# Altium footprint library syhaunguyen.PcbLib: 329 footprints (part 1 of 21)
Each footprint in its own frame and in the unit in brackets; x right, y up, seen from the top. Pads: shape width x height; smd on the part's side, far side on the other; paste and mask are expansions set on the pad; w line width, h text height; cw(c..) or ccw(c..) is an arc to the next point about the centre after c.
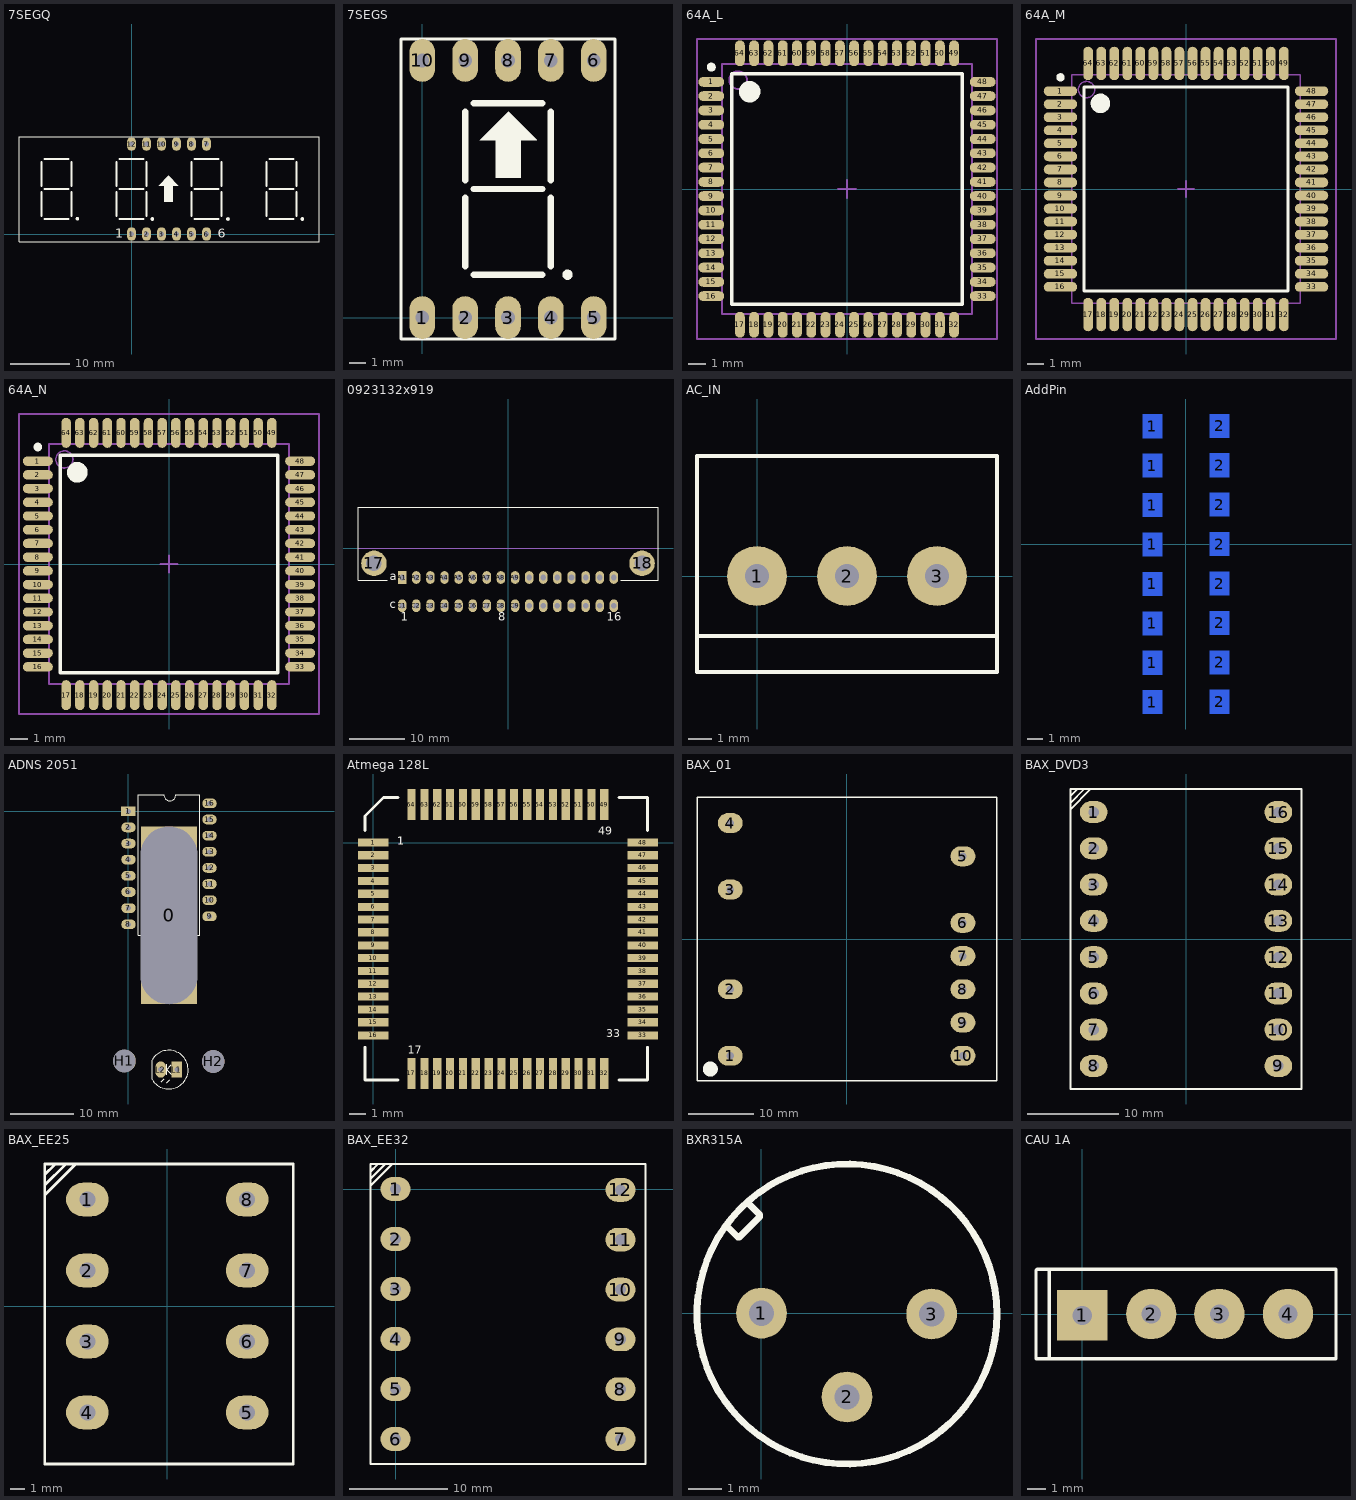
[diagram p0: the footprints below, top view; thin cyan lines are the x and y axes]

## 7SEGQ [mil] "DIP 12 Leads; Body 48 x 20 mm; Pitch 0.5 mm"
height 300
pads (12):
  oval 60x90 hole 31: 1(0,0) 2(100,0) 3(200,0) 4(300,0) 5(400,0) 6(500,0) 7(500,600) 8(400,600) 9(300,600) 10(200,600) 11(100,600) 12(0,600)
Top Overlay:
  drawing of 155 lines, arcs and shapes, not listed
  text "6" at 575,-26 h60
  text "1" at -108,-24 h60
3D body: height 276.19, standoff -117.51, extent -50,550 550,650
3D body: height 276.19, standoff -117.51, extent -50,-44.99 550,55.01
3D body: height 564.96, standoff 112.2, extent -720.16,-80 1260.16,668.03

## 7SEGS [mil] "DIP 10 Leads; Body 12 x 15 mm; Pitch 0.5 mm"
height 300
pads (10):
  oval 60x100 hole 32: 1(0,0) 2(100,0) 3(200,0) 4(300,0) 5(400,0) 6(400,600) 7(300,600) 8(200,600) 9(100,600) 10(0,600)
Top Overlay:
  circle w12: c339,100 r6
  region: 134,414 200,480 202,480 267,415 267,414 230,414 230,326 171,326 171,414
  lines w7: -50,-50 450,-50 450,650 -50,650 -50,-50
  lines w15: 100,120 100,280 ; 100,120 100,280 ; 100,120 100,280 ; 100,120 100,280 ; 100,120 100,280 ; 100,120 100,280 ; 100,120 100,280 ; 100,120 100,280 ; 100,320 100,480 ; 100,320 100,480 ; 100,320 100,480 ; 100,320 100,480 ; 100,320 100,480 ; 100,320 100,480 ; 100,320 100,480 ; 100,320 100,480 ; 120,100 280,100 ; 120,100 280,100 ; 120,100 280,100 ; 120,100 280,100 ; 120,300 280,300 ; 120,300 280,300 ; 120,300 280,300 ; 120,300 280,300 ; 120,300 280,300 ; 120,300 280,300 ; 120,300 280,300 ; 120,300 280,300 ; 120,500 280,500 ; 120,500 280,500 ; 120,500 280,500 ; 120,500 280,500 ; 300,120 300,280 ; 300,120 300,280 ; 300,120 300,280 ; 300,120 300,280 ; 300,120 300,280 ; 300,120 300,280 ; 300,120 300,280 ; 300,120 300,280 ; 300,320 300,480 ; 300,320 300,480 ; 300,320 300,480 ; 300,320 300,480 ; 300,320 300,480 ; 300,320 300,480 ; 300,320 300,480 ; 300,320 300,480
3D body: height 316.25, standoff -156.19, extent -50,-75 450,675

## 64A_L [mm] "Thin QFP, 64-Leads, Body 14x14mm, Pitch 0.8mm, IPC High Density"
height 1.2
pads (64):
  oval 1.45x0.55 smd: 1(-7.6,6) 2(-7.6,5.2) 3(-7.6,4.4) 4(-7.6,3.6) 5(-7.6,2.8) 6(-7.6,2) 7(-7.6,1.2) 8(-7.6,0.4) 9(-7.6,-0.4) 10(-7.6,-1.2) 11(-7.6,-2) 12(-7.6,-2.8) 13(-7.6,-3.6) 14(-7.6,-4.4) 15(-7.6,-5.2) 16(-7.6,-6) 33(7.6,-6) 34(7.6,-5.2) 35(7.6,-4.4) 36(7.6,-3.6) 37(7.6,-2.8) 38(7.6,-2) 39(7.6,-1.2) 40(7.6,-0.4) 41(7.6,0.4) 42(7.6,1.2) 43(7.6,2) 44(7.6,2.8) 45(7.6,3.6) 46(7.6,4.4) 47(7.6,5.2) 48(7.6,6)
  oval 0.55x1.45 smd: 17(-6,-7.6) 18(-5.2,-7.6) 19(-4.4,-7.6) 20(-3.6,-7.6) 21(-2.8,-7.6) 22(-2,-7.6) 23(-1.2,-7.6) 24(-0.4,-7.6) 25(0.4,-7.6) 26(1.2,-7.6) 27(2,-7.6) 28(2.8,-7.6) 29(3.6,-7.6) 30(4.4,-7.6) 31(5.2,-7.6) 32(6,-7.6) 49(6,7.6) 50(5.2,7.6) 51(4.4,7.6) 52(3.6,7.6) 53(2.8,7.6) 54(2,7.6) 55(1.2,7.6) 56(0.4,7.6) 57(-0.4,7.6) 58(-1.2,7.6) 59(-2,7.6) 60(-2.8,7.6) 61(-3.6,7.6) 62(-4.4,7.6) 63(-5.2,7.6) 64(-6,7.6)
Top Overlay:
  circle w0.6: c-5.45,5.45 r0.3
  circle w0.25: c-7.6,6.825 r0.125
  lines w0.2: -6.45,-6.45 6.45,-6.45 6.45,6.45 -6.45,6.45 -6.45,-6.45
Mechanical 13:
  circle w0.1: c-6.1,6.1 r0.5
  lines w0.1: -7,-7 7,-7 7,7 -7,7 -7,-7
Mechanical 15:
  lines w0.1: -0.5,0 0.5,0 ; 0,-0.5 0,0.5 ; -8.4,-8.4 8.4,-8.4 8.4,8.4 -8.4,8.4 -8.4,-8.4
3D body: height 1.2, standoff 0, extent -7,-7 7,7

## 64A_M [mm] "Thin QFP, 64-Leads, Body 14x14mm, Pitch 0.8mm, IPC Low Density"
height 1.2
pads (64):
  oval 2.05x0.6 smd: 1(-7.7,6) 2(-7.7,5.2) 3(-7.7,4.4) 4(-7.7,3.6) 5(-7.7,2.8) 6(-7.7,2) 7(-7.7,1.2) 8(-7.7,0.4) 9(-7.7,-0.4) 10(-7.7,-1.2) 11(-7.7,-2) 12(-7.7,-2.8) 13(-7.7,-3.6) 14(-7.7,-4.4) 15(-7.7,-5.2) 16(-7.7,-6) 33(7.7,-6) 34(7.7,-5.2) 35(7.7,-4.4) 36(7.7,-3.6) 37(7.7,-2.8) 38(7.7,-2) 39(7.7,-1.2) 40(7.7,-0.4) 41(7.7,0.4) 42(7.7,1.2) 43(7.7,2) 44(7.7,2.8) 45(7.7,3.6) 46(7.7,4.4) 47(7.7,5.2) 48(7.7,6)
  oval 0.6x2.05 smd: 17(-6,-7.7) 18(-5.2,-7.7) 19(-4.4,-7.7) 20(-3.6,-7.7) 21(-2.8,-7.7) 22(-2,-7.7) 23(-1.2,-7.7) 24(-0.4,-7.7) 25(0.4,-7.7) 26(1.2,-7.7) 27(2,-7.7) 28(2.8,-7.7) 29(3.6,-7.7) 30(4.4,-7.7) 31(5.2,-7.7) 32(6,-7.7) 49(6,7.7) 50(5.2,7.7) 51(4.4,7.7) 52(3.6,7.7) 53(2.8,7.7) 54(2,7.7) 55(1.2,7.7) 56(0.4,7.7) 57(-0.4,7.7) 58(-1.2,7.7) 59(-2,7.7) 60(-2.8,7.7) 61(-3.6,7.7) 62(-4.4,7.7) 63(-5.2,7.7) 64(-6,7.7)
Top Overlay:
  circle w0.6: c-5.25,5.25 r0.3
  circle w0.25: c-7.7,6.85 r0.125
  lines w0.2: -6.25,-6.25 6.25,-6.25 6.25,6.25 -6.25,6.25 -6.25,-6.25
Mechanical 13:
  circle w0.1: c-6.1,6.1 r0.5
  lines w0.1: -7,-7 7,-7 7,7 -7,7 -7,-7
Mechanical 15:
  lines w0.1: -0.5,0 0.5,0 ; 0,-0.5 0,0.5 ; -9.2,-9.2 9.2,-9.2 9.2,9.2 -9.2,9.2 -9.2,-9.2
3D body: height 1.2, standoff 0, extent -7,-7 7,7

## 64A_N [mm] "Thin QFP, 64-Leads, Body 14x14mm, Pitch 0.8mm, IPC Medium Density"
height 1.2
pads (64):
  oval 1.75x0.55 smd: 1(-7.65,6) 2(-7.65,5.2) 3(-7.65,4.4) 4(-7.65,3.6) 5(-7.65,2.8) 6(-7.65,2) 7(-7.65,1.2) 8(-7.65,0.4) 9(-7.65,-0.4) 10(-7.65,-1.2) 11(-7.65,-2) 12(-7.65,-2.8) 13(-7.65,-3.6) 14(-7.65,-4.4) 15(-7.65,-5.2) 16(-7.65,-6) 33(7.65,-6) 34(7.65,-5.2) 35(7.65,-4.4) 36(7.65,-3.6) 37(7.65,-2.8) 38(7.65,-2) 39(7.65,-1.2) 40(7.65,-0.4) 41(7.65,0.4) 42(7.65,1.2) 43(7.65,2) 44(7.65,2.8) 45(7.65,3.6) 46(7.65,4.4) 47(7.65,5.2) 48(7.65,6)
  oval 0.55x1.75 smd: 17(-6,-7.65) 18(-5.2,-7.65) 19(-4.4,-7.65) 20(-3.6,-7.65) 21(-2.8,-7.65) 22(-2,-7.65) 23(-1.2,-7.65) 24(-0.4,-7.65) 25(0.4,-7.65) 26(1.2,-7.65) 27(2,-7.65) 28(2.8,-7.65) 29(3.6,-7.65) 30(4.4,-7.65) 31(5.2,-7.65) 32(6,-7.65) 49(6,7.65) 50(5.2,7.65) 51(4.4,7.65) 52(3.6,7.65) 53(2.8,7.65) 54(2,7.65) 55(1.2,7.65) 56(0.4,7.65) 57(-0.4,7.65) 58(-1.2,7.65) 59(-2,7.65) 60(-2.8,7.65) 61(-3.6,7.65) 62(-4.4,7.65) 63(-5.2,7.65) 64(-6,7.65)
Top Overlay:
  circle w0.25: c-7.65,6.825 r0.125
  circle w0.6: c-5.35,5.35 r0.3
  lines w0.2: -6.35,-6.35 -6.35,6.35 6.35,6.35 6.35,-6.35 -6.35,-6.35
Mechanical 13:
  circle w0.1: c-6.1,6.1 r0.5
  lines w0.1: -7,-7 -7,7 7,7 7,-7 -7,-7
Mechanical 15:
  lines w0.1: -0.5,0 0.5,0 ; 0,-0.5 0,0.5 ; -8.75,-8.75 -8.75,8.75 8.75,8.75 8.75,-8.75 -8.75,-8.75
3D body: height 1.2, standoff 0, extent -7,-7 7,7

## 0923132x919 [mm] "Connector; DIN 41612, Type 2C, Thru-Hole; Rows a+c, 32 Position; Right Angle"
height 11.1
pads (34):
  round 4.6 hole 2.8: 17(-24.13,-2.76) 18(24.13,-2.76)
  rect 1.524x2.286 hole 1: A1(-19.05,-5.3)
  oval 1.524x2.286 hole 1: A2(-16.51,-5.3) A3(-13.97,-5.3) A4(-11.43,-5.3) A5(-8.89,-5.3) A6(-6.35,-5.3) A7(-3.81,-5.3) A8(-1.27,-5.3) A9(1.27,-5.3) A10(3.81,-5.3) A11(6.35,-5.3) A12(8.89,-5.3) A13(11.43,-5.3) A14(13.97,-5.3) A15(16.51,-5.3) A16(19.05,-5.3) C1(-19.05,-10.38) C2(-16.51,-10.38) C3(-13.97,-10.38) C4(-11.43,-10.38) C5(-8.89,-10.38) C6(-6.35,-10.38) C7(-3.81,-10.38) C8(-1.27,-10.38) C9(1.27,-10.38) C10(3.81,-10.38) C11(6.35,-10.38) C12(8.89,-10.38) C13(11.43,-10.38) C14(13.97,-10.38) C15(16.51,-10.38) C16(19.05,-10.38)
Top Overlay:
  lines w0.2: -21.75,-5.8 -27,-5.8 -27,7.34 27,7.34 27,-5.8 20.275,-5.8
  text "16" at 17.8,-13.08 h1.5
  text "8" at -1.77,-13.08 h1.5
  text "c" at -21.26,-10.88 h1.5
  text "a" at -21.26,-5.8 h1.5
  text "1" at -19.3,-13.08 h1.5
Mechanical 1:
  lines w0.1: -27,0 27,0
  text "PCB Edge" at -26.15,0.5 h0.6

## AC_IN [mil] "AC_Input"
height 3
pads (3):
  round 100 hole 40 square: 1(0,0) 2(150,0) 3(300,0)
Top Overlay:
  lines w7: -100,-100 400,-100 ; -100,-160 400,-160 400,200 -100,200 -100,-160

## AddPin [mil] "Add"
pads (16):
  rect 50x60 smd far side: 1(-84,-400) 1(-84,-300) 1(-84,-200) 1(-84,-100) 1(-84,0) 1(-84,100) 1(-84,200) 1(-84,300) 2(86,-399) 2(86,-299) 2(86,-199) 2(86,-99) 2(86,1) 2(86,101) 2(86,201) 2(86,301)

## ADNS 2051 [mil] "Foots pin for Mouse"
pads (21):
  rect 350x1100 hole 350 slot 1100 at 90 deg: 0(251,-645)
  rect 90x60 hole 31: 1(0,0)
  oval 90x60 hole 31: 2(0,-100) 3(0,-200) 4(0,-300) 5(0,-400) 6(0,-500) 7(0,-600) 8(0,-700) 9(502,-651) 10(502,-551) 11(502,-451) 12(502,-351) 13(502,-251) 14(502,-151) 15(502,-51) 16(502,49)
  round 140 hole 140: H1(-25,-1547) H2(525,-1550)
  rect 65x100 hole 32: L1(300,-1600.5)
  oval 65x100 hole 32: L2(200,-1600.5)
Top Overlay:
  lines w7: 146,-1660.5 146,-1541.5 ; 146.06,-1540.53 cw(c250,-1600.5) 146.49,-1661.21 ; 204,-1675.5 221,-1658.5 ; 218,103 59,103 59,-767 443,-767 443,103 296,103 ; 218.97,101 ccw(c255.99,101) 293,101 ; 236,-1632.5 236,-1566.5 ; 238,-1681.5 255,-1664.5 ; 265,-1629.5 236,-1600.5 265,-1571.5 ; 394.94,-516.95 ccw(c252.8,-525.96) 395,-518
  text "ADNS2051" at 108,-229 h40

## Atmega 128L [mil] "Atmega 128L, 64 pin SMT"
height 100
pads (64):
  rect 75x20 smd: 1(0,0) 2(0,-31) 3(0,-62) 4(0,-94) 5(0,-125) 6(0,-157) 7(0,-188) 8(0,-219) 9(0,-251) 10(0,-282) 11(0,-314) 12(0,-345) 13(0,-376) 14(0,-408) 15(0,-439) 16(0,-471) 33(658,-471) 34(658,-439) 35(658,-408) 36(658,-376) 37(658,-345) 38(658,-314) 39(658,-282) 40(658,-251) 41(658,-219) 42(658,-188) 43(658,-157) 44(658,-125) 45(658,-94) 46(658,-62) 47(658,-31) 48(658,0)
  rect 20x75 smd: 17(93,-564) 18(125,-564) 19(156,-564) 20(187,-564) 21(219,-564) 22(250,-564) 23(282,-564) 24(313,-564) 25(344,-564) 26(376,-564) 27(407,-564) 28(439,-564) 29(470,-564) 30(501,-564) 31(533,-564) 32(564,-564) 49(564,93) 50(533,93) 51(501,93) 52(470,93) 53(439,93) 54(407,93) 55(376,93) 56(344,93) 57(313,93) 58(282,93) 59(250,93) 60(219,93) 61(187,93) 62(156,93) 63(125,93) 64(93,93)
Top Overlay:
  lines w7: -20,-500 -20,-580 60,-580 ; -20,30 -20,65 25,110 60,110 ; 600,-580 670,-580 670,-500 ; 600,110 670,110 670,30
  text "1" at 59,-5.5 h20
  text "1" at 59,-5.5 h20
  text "49" at 549,19.5 h20
  text "17" at 84,-515.5 h20
  text "33" at 569,-475.5 h20

## BAX_01 [mil] "Bien ap xung cho nguon T9AT"
pads (10):
  oval 150x120 hole 45: 1(-700,-700) 2(-700,-300) 3(-700,300) 4(-700,700) 5(700,500) 6(700,100) 7(700,-100) 8(700,-300) 9(700,-500) 10(700,-700)
Top Overlay:
  circle w50: c-820,-780 r20
  lines w8: -900,-850 905,-850 905,855 -900,855 -900,-850

## BAX_DVD3 [mil] "Bien ap xung DVD3"
pads (16):
  oval 120x95 hole 45: 1(-400,550) 2(-400,392.86) 3(-400,235.71) 4(-400,78.57) 5(-400,-78.57) 6(-400,-235.71) 7(-400,-392.86) 8(-400,-550) 9(400,-550) 10(400,-392.86) 11(400,-235.71) 12(400,-78.57) 13(400,78.57) 14(400,235.71) 15(400,392.86) 16(400,550)
Top Overlay:
  lines w8: -500,563 -414,649 ; -500,589 -500,591 -442,649 ; -500,618 -500,620 -471,649 ; -500,-650 -500,650 490,650 500,650 500,-650 -500,-650

## BAX_EE25 [mil] "EE25"
pads (8):
  oval 120x95 hole 45: 1(-225,300) 2(-225,100) 3(-225,-100) 4(-225,-300) 5(225,-300) 6(225,-100) 7(225,100) 8(225,300)
Top Overlay:
  lines w8: -345,313 -259,399 ; -345,339 -345,341 -287,399 ; -345,368 -345,370 -316,399 ; -345,-445 355,-445 355,400 -345,400 -345,-445

## BAX_EE32 [mil] "EE32"
pads (12):
  oval 120x95 hole 45: 1(0,0) 2(0,-200) 3(0,-400) 4(0,-600) 5(0,-800) 6(0,-1000) 7(900,-1000) 8(900,-800.71) 9(900,-601.43) 10(900,-402.14) 11(900,-202.86) 12(900,-3.57)
Top Overlay:
  lines w8: -100,13 -14,99 ; -100,39 -100,41 -42,99 ; -100,68 -100,70 -71,99 ; -100,-1100 -100,100 1000,100 1000,-1100 -100,-1100

## BXR315A [mil] "Xtal for RF"
pads (3):
  round 60 hole 30: 1(0,0) 2(101,-99) 3(201,-1)
Top Overlay:
  circle w8: c101,-1 r177.17
  lines w8: -41,103 -28,90 -26,90 -2,114 -2,116 -15,129

## CAU 1A [mil] "CAU 1A DET"
height 800
pads (4):
  rect 110x110 hole 42: 1(0,-2)
  round 110 hole 42: 2(151,1) 3(300,1) 4(450,1)
Top Overlay:
  lines w7: -72,-95 -72,99 ; -101,-97 555,-97 555,99 -99,99 -101,97 -101,-97
3D body: height 453.36, standoff -499.4, extent -61.99,-90 511.99,107.24